# Altium schematic symbol library Cap_tan.SchLib: 1 symbol
Pins are listed as number, name and electrical type; pins without a type are passive.

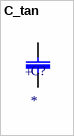
[diagram p0: symbol C_tan]

## C_tan
designator C?
footprint TC7343-2917 (Capacitor, SM Tantalum; Body 7.3 x 4.3 mm (LxW typ))
footprint TC7343-2917 (Capacitor, SM Tantalum; Body 7.3 x 4.3 mm (LxW typ))
footprint SUPERCAP
footprint PCBComponent_1
pins: 1, 2
text: +